# Altium footprint library CON_JST_2P.PcbLib: 1 footprints
Each footprint in its own frame and in the unit in brackets; x right, y up, seen from the top. Pads: shape width x height; smd on the part's side, far side on the other; paste and mask are expansions set on the pad; w line width, h text height; cw(c..) or ccw(c..) is an arc to the next point about the centre after c.
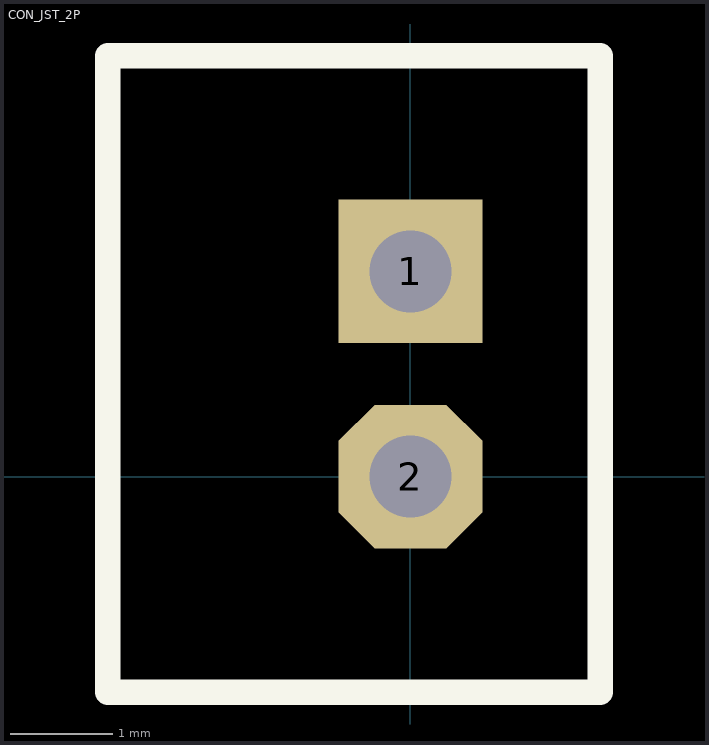
[diagram p0: the footprint, top view; thin cyan lines are the x and y axes]

## CON_JST_2P [mm] "JST through hole type 2 pin connnector"
height 6
pads (2):
  rect 1.4x1.4 hole 0.8: 1(0,2)
  oct 1.4x1.4 hole 0.8: 2(0,0)
Top Overlay:
  lines w0.25: -2.95,-2.1 1.85,-2.1 1.85,4.1 -2.95,4.1 -2.95,-2.1
3D body: height 6, standoff -3.4, extent -2.8,-1.95 1.7,3.95